# Altium schematic symbol library NC_SYMBOL.SchLib: 1 symbol
Pins are listed as number, name and electrical type; pins without a type are passive.

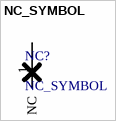
[diagram p0: symbol NC_SYMBOL]

## NC_SYMBOL
designator NC?
No-connect symbol
pins: 1 NC